# Altium footprint library PCB - INDUCTOR - RF - Murata LQW04 0302.PCBLIB: 1 footprints
Each footprint in its own frame and in the unit in brackets; x right, y up, seen from the top. Pads: shape width x height; smd on the part's side, far side on the other; paste and mask are expansions set on the pad; w line width, h text height; cw(c..) or ccw(c..) is an arc to the next point about the centre after c.
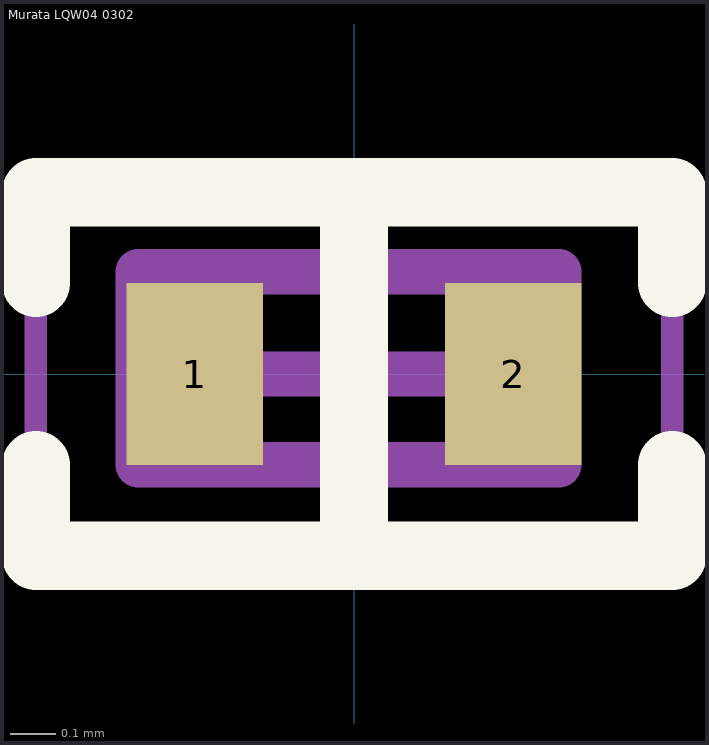
[diagram p0: the footprint, top view; thin cyan lines are the x and y axes]

## Murata LQW04 0302 [mm] "Chip Inductor, 2-Leads, Body 0.80x0.40mm, IPC High Density"
height 0.45
pads (2):
  rect 0.3x0.4 smd: 1(-0.35,0) 2(0.35,0)
Top Overlay:
  lines w0.15: -0.7,-0.2 -0.7,-0.4 0.7,-0.4 0.7,-0.2 ; -0.7,0.2 -0.7,0.4 0.7,0.4 0.7,0.2 ; 0,-0.4 0,0.4
Mechanical 13:
  lines w0.1: -0.475,-0.2 -0.475,0.225 0.45,0.225 0.45,-0.2 -0.475,-0.2
Mechanical 15:
  lines w0.05: -0.7,-0.4 -0.7,0.4 0.7,0.4 0.7,-0.4 -0.7,-0.4
  lines w0.1: -0.3,0 0.3,0 ; 0,-0.3 0,0.3
3D body "Murata LQW04.step": height 0.42, standoff 0, extent -0.425,-0.2 0.425,0.2
3D body "Murata LQW04 Top.step": height 0.45, standoff 0.3, extent -0.425,-0.2 0.425,0.2